# EAGLE library part G2RE (library relay)
RELAY 1 x switch, high current, Omron
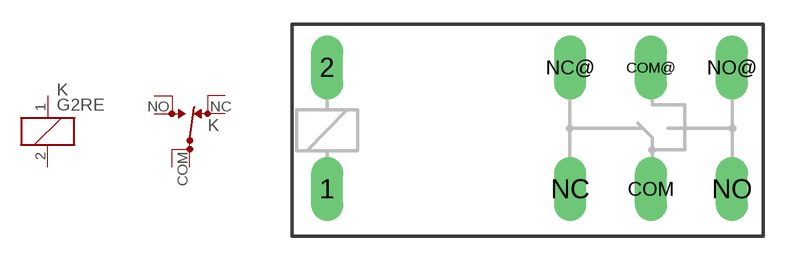
[diagram p21: symbol with the pads of G2RE; footprint G2RE]

Designator prefix K; gates C=K -A=UD

## G2RE  [G2RE]
1  C:1  pas
2  C:2  pas
COM  -A:COM  pas
COM@  -A:COM  pas
NC  -A:NC  pas
NC@  -A:NC  pas
NO  -A:NO  pas
NO@  -A:NO  pas

## Footprint G2RE (pad centres in mm)
RELAY 1 x switch, high current, Omron
drill 1.321 long: 1 -2.54,-3.683; 2 -2.54,3.81; COM 17.45,-3.683; COM@ 17.45,3.81; NC 12.471,-3.683; NC@ 12.471,3.81; NO 22.454,-3.683; NO@ 22.454,3.81